# Altium schematic symbol library 12VRGBCW.SCHLIB: 17 symbols
Pins are listed as number, name and electrical type; pins without a type are passive.

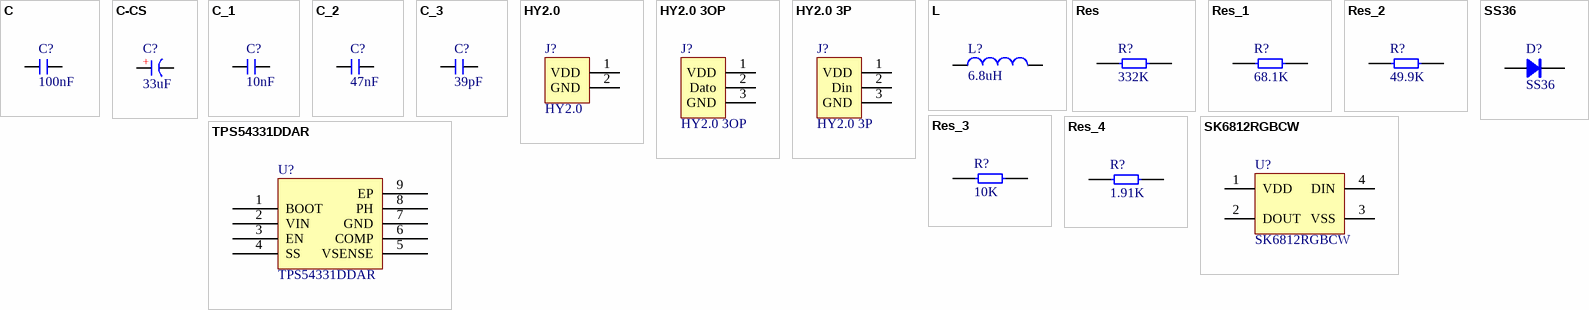
[diagram p0: symbols C to TPS54331DDAR]

## C
designator C?, comment 100nF
无极性贴片电容; 材质: X7R; BOM名称: 无极性贴片电容
footprint C 0603_L (无极性贴片电容)
pins: 1, 2

## C-CS
designator C?, comment 33uF
直插固态电容; BOM名称: 直插固态电容
footprint CS 2.0*5*8 - C (脚距2mm , 直径5mm , 高8mm)
footprint CS 2.0*5*8 - R (脚距2mm , 直径5mm , 高8mm)
footprint CS 2.0*5*8 - V (脚距2mm , 直径5mm , 高8mm)
footprint CS 2.5*6.3*7 - C (脚距2.5mm , 直径6.3mm , 高7mm)
footprint CS 2.5*6.3*7 - R (脚距2.5mm , 直径6.3mm , 高7mm)
footprint CS 2.5*6.3*7 - V (脚距2.5mm , 直径6.3mm , 高7mm)
footprint CS 2.5*6.3*11 - C (脚距2.5mm , 直径6.3mm , 高11mm)
footprint CS 2.5*6.3*11 - R (脚距2.5mm , 直径6.3mm , 高11mm)
footprint CS 2.5*6.3*11 - V (脚距2.5mm , 直径6.3mm , 高11mm)
footprint CS 3.5*8*8 - C (脚距3.5mm , 直径8mm , 高8mm)
footprint CS 3.5*8*8 - R (脚距3.5mm , 直径8mm , 高8mm)
footprint CS 3.5*8*8 - V (脚距3.5mm , 直径8mm , 高8mm)
footprint CS 3.5*8*11.5 - C (脚距3.5mm , 直径8mm , 高11.5mm)
footprint CS 3.5*8*11.5 - R (脚距3.5mm , 直径8mm , 高11.5mm)
footprint CS 3.5*8*11.5 - V (脚距3.5mm , 直径8mm , 高11.5mm)
footprint CS 5.0*10*13 - C (脚距5mm , 直径10mm , 高13mm)
footprint CS 5.0*10*13 - R (脚距5mm , 直径10mm , 高13mm)
footprint CS 5.0*10*13 - V (脚距5mm , 直径10mm , 高13mm)
pins: 1 A, 2 K
text: +

## C_1
designator C?, comment 10nF
无极性贴片电容; 材质: X7R; BOM名称: 无极性贴片电容
footprint C 0201_L (无极性贴片电容)
footprint C 0402_L (无极性贴片电容)
footprint C 0603_L (无极性贴片电容)
footprint C 0805_L (无极性贴片电容)
footprint C 1206_L (无极性贴片电容)
footprint C 1210_L (无极性贴片电容)
footprint C 1808_L (无极性贴片电容)
footprint C 1812_L (无极性贴片电容)
footprint C 1825_L (无极性贴片电容)
footprint C 2225_L (无极性贴片电容)
footprint C 0201_M (无极性贴片电容)
footprint C 0402_M (无极性贴片电容)
footprint C 0603_M (无极性贴片电容)
footprint C 0805_M (无极性贴片电容)
footprint C 1206_M (无极性贴片电容)
footprint C 1210_M (无极性贴片电容)
footprint C 1808_M (无极性贴片电容)
footprint C 1812_M (无极性贴片电容)
footprint C 1825_M (无极性贴片电容)
footprint C 2225_M (无极性贴片电容)
pins: 1, 2

## C_2
designator C?, comment 47nF
无极性贴片电容; 材质: X7R; BOM名称: 无极性贴片电容
footprint C 0201_L (无极性贴片电容)
footprint C 0402_L (无极性贴片电容)
footprint C 0603_L (无极性贴片电容)
footprint C 0805_L (无极性贴片电容)
footprint C 1206_L (无极性贴片电容)
footprint C 1210_L (无极性贴片电容)
footprint C 1808_L (无极性贴片电容)
footprint C 1812_L (无极性贴片电容)
footprint C 1825_L (无极性贴片电容)
footprint C 2225_L (无极性贴片电容)
footprint C 0201_M (无极性贴片电容)
footprint C 0402_M (无极性贴片电容)
footprint C 0603_M (无极性贴片电容)
footprint C 0805_M (无极性贴片电容)
footprint C 1206_M (无极性贴片电容)
footprint C 1210_M (无极性贴片电容)
footprint C 1808_M (无极性贴片电容)
footprint C 1812_M (无极性贴片电容)
footprint C 1825_M (无极性贴片电容)
footprint C 2225_M (无极性贴片电容)
pins: 1, 2

## C_3
designator C?, comment 39pF
无极性贴片电容; 材质: X7R; BOM名称: 无极性贴片电容
footprint C 0201_L (无极性贴片电容)
footprint C 0402_L (无极性贴片电容)
footprint C 0603_L (无极性贴片电容)
footprint C 0805_L (无极性贴片电容)
footprint C 1206_L (无极性贴片电容)
footprint C 1210_L (无极性贴片电容)
footprint C 1808_L (无极性贴片电容)
footprint C 1812_L (无极性贴片电容)
footprint C 1825_L (无极性贴片电容)
footprint C 2225_L (无极性贴片电容)
footprint C 0201_M (无极性贴片电容)
footprint C 0402_M (无极性贴片电容)
footprint C 0603_M (无极性贴片电容)
footprint C 0805_M (无极性贴片电容)
footprint C 1206_M (无极性贴片电容)
footprint C 1210_M (无极性贴片电容)
footprint C 1808_M (无极性贴片电容)
footprint C 1812_M (无极性贴片电容)
footprint C 1825_M (无极性贴片电容)
footprint C 2225_M (无极性贴片电容)
pins: 1, 2

## HY2.0
designator J?
供电接口
pins: 1 VDD, 2 GND

## HY2.0 3OP
designator J?
pins: 1 VDD, 2 Dato, 3 GND

## HY2.0 3P
designator J?
数据输入
pins: 1 VDD, 2 Din, 3 GND

## L
designator L?, comment 6.8uH
小功率贴片电感; BOM名称: 小功率贴片电感
footprint NR2520 (2.5mm*2.0mm*1.0mm(长*宽*高）)
footprint CDRH73 (7.3*7.3*3.4mm（长宽高）)
pins: 1, 2

## Res
designator R?, comment 332K
电阻
footprint R 0603_M (1/10W贴片电阻)
pins: 1, 2

## Res_1
designator R?, comment 68.1K
电阻
footprint R 0603_M (1/10W贴片电阻)
pins: 1, 2

## Res_2
designator R?, comment 49.9K
电阻
footprint R 0603_M (1/10W贴片电阻)
pins: 1, 2

## Res_3
designator R?, comment 10K
电阻
footprint R 0603_M (1/10W贴片电阻)
pins: 1, 2

## Res_4
designator R?, comment 1.91K
电阻
footprint R 0603_M (1/10W贴片电阻)
pins: 1, 2

## SK6812RGBCW
designator U?
RGB灯珠
pins: 1 VDD, 2 DOUT, 3 VSS, 4 DIN

## SS36
designator D?
肖特基二极管; 属性: 40V/3A; BOM名称: 肖特基二极管
footprint SMC (7.1x5.9*2.3mm（长宽高，不包括引脚）)
footprint SMB (4.7*3.9*2.2mm(长宽高，不包括引脚）)
footprint SMA (4.5x2.6*2.2mm（长宽高，不包括引脚）)
pins: 1 A, 2 K

## TPS54331DDAR
designator U?
压降芯片
footprint SOP8_M (5*6*1.8mm（长宽高）)
footprint SOP8_M (5*6*1.8mm（长宽高）)
pins: 1 BOOT, 2 VIN, 3 EN, 4 SS, 5 VSENSE, 6 COMP, 7 GND, 8 PH, 9 EP